# EAGLE library part ESP8266-12F (library koch)
ESP12E Module
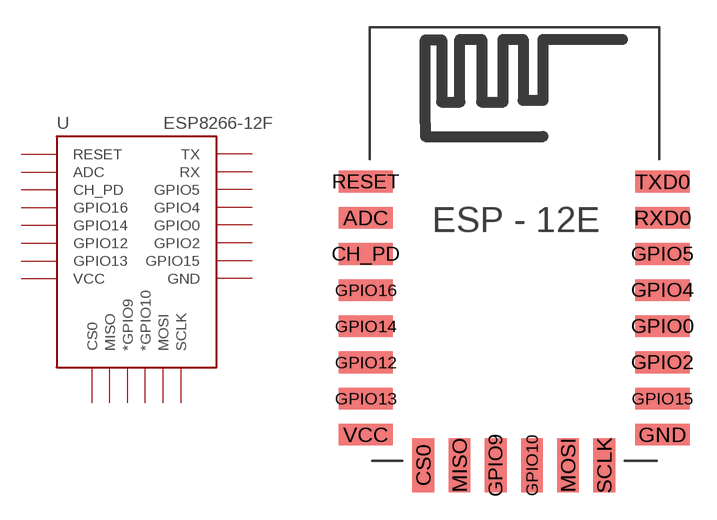
[diagram p2: symbol with the pads of ESP8266-12F; footprint ESP8266-12F]

Designator prefix U

## ESP8266-12FSMD  [ESP8266-12F]
ADC  ADC
CH_PD  CH_PD
CS0  CS0
GND  GND
GPIO0  GPIO0
GPIO2  GPIO2
GPIO4  GPIO4
GPIO5  GPIO5
GPIO9  *GPIO9
GPIO10  *GPIO10
GPIO12  GPIO12
GPIO13  GPIO13
GPIO14  GPIO14
GPIO15  GPIO15
GPIO16  GPIO16
MISO  MISO
MOSI  MOSI
RESET  RESET
RXD0  RX
SCLK  SCLK
TXD0  TX
VCC  VCC

## Footprint ESP8266-12F (pad centres in mm)
ESP8266 Module 12E
smd 3 x 1.2: ADC -8.198,3.394; CH_PD -8.198,1.394; GND 8.202,-8.606; GPIO0 8.202,-2.606; GPIO2 8.202,-4.606; GPIO4 8.202,-0.606; GPIO5 8.202,1.394; GPIO12 -8.198,-4.606; GPIO13 -8.198,-6.606; GPIO14 -8.198,-2.606; GPIO15 8.202,-6.606; GPIO16 -8.198,-0.606; RESET -8.198,5.394; RXD0 8.202,3.394; TXD0 8.202,5.394; VCC -8.198,-8.606
smd 1.2 x 3: CS0 -5.016,-10.3; GPIO9 -1.016,-10.3; GPIO10 0.984,-10.3; MISO -3.016,-10.3; MOSI 2.984,-10.3; SCLK 4.984,-10.3